# EAGLE library part MCP443X (library microchip)
Quad Digital POT 7/8-Bit Volatile with I2C Interface
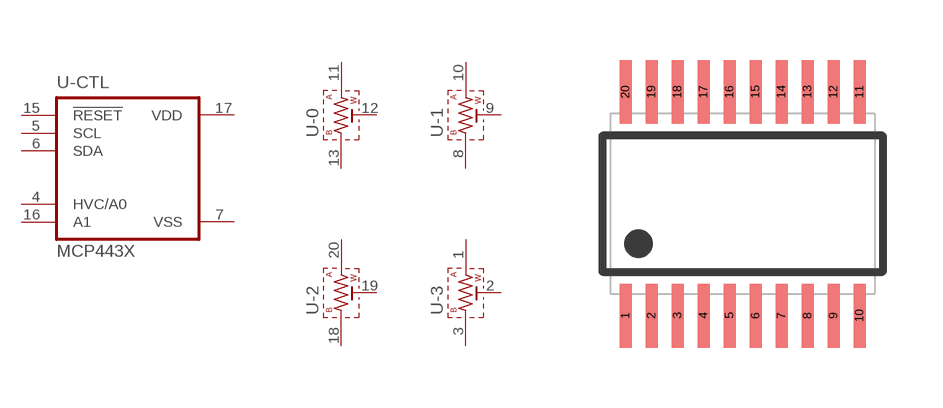
[diagram p143: symbol with the pads of TSSOP20; footprint TSSOP20]

Designator prefix U; gates -CTL=MCP443X -0=DIGIPOT -1=DIGIPOT -2=DIGIPOT -3=DIGIPOT

## MCP443X  [TSSOP20]
1  -3:A  pas
2  -3:W  pas
3  -3:B  pas
4  -CTL:HVC/A0  in
5  -CTL:SCL
6  -CTL:SDA
7  -CTL:VSS  pwr
8  -1:B  pas
9  -1:W  pas
10  -1:A  pas
11  -0:A  pas
12  -0:W  pas
13  -0:B  pas
15  -CTL:!RESET!  in
16  -CTL:A1  in
17  -CTL:VDD  pwr
18  -2:B  pas
19  -2:W  pas
20  -2:A  pas

## Footprint TSSOP20 (pad centres in mm)
Thin Shrink Small Outline Plastic 20 pitch 0.65 mm, body 4.5 x 6.6 mm
smd 0.3 x 1.6: 1 -2.925,-2.8; 2 -2.275,-2.8; 3 -1.625,-2.8; 4 -0.975,-2.8; 5 -0.325,-2.8; 6 0.325,-2.8; 7 0.975,-2.8; 8 1.625,-2.8; 9 2.275,-2.8; 10 2.925,-2.8; 11 2.925,2.8; 12 2.275,2.8; 13 1.625,2.8; 14 0.975,2.8; 15 0.325,2.8; 16 -0.325,2.8; 17 -0.975,2.8; 18 -1.625,2.8; 19 -2.275,2.8; 20 -2.925,2.8